# Altium footprint library NCV7357.PcbLib: 1 footprints
Each footprint in its own frame and in the unit in brackets; x right, y up, seen from the top. Pads: shape width x height; smd on the part's side, far side on the other; paste and mask are expansions set on the pad; w line width, h text height; cw(c..) or ccw(c..) is an arc to the next point about the centre after c.
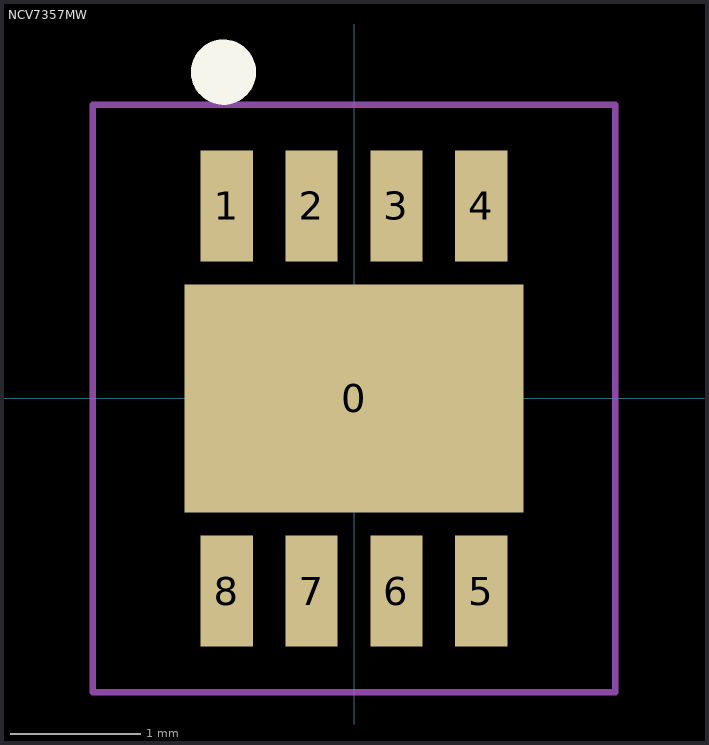
[diagram p0: the footprint, top view; thin cyan lines are the x and y axes]

## NCV7357MW [mm]
pads (9):
  rect 2.6x1.75 smd mask+0.05: 0(0,0)
  rect 0.4x0.85 smd mask+0.05: 1(-0.975,1.475) 2(-0.325,1.475) 3(0.325,1.475) 4(0.975,1.475) 5(0.975,-1.475) 6(0.325,-1.475) 7(-0.325,-1.475) 8(-0.975,-1.475)
Top Overlay:
  circle w0.25: c-1,2.5 r0.125
Top Courtyard:
  lines w0.05: -2,-2.25 2,-2.25 2,2.25 -2,2.25 -2,-2.25
3D body: height 0.9, standoff 0, extent -1.5,-1.5 1.5,1.5